# Altium footprint library RKEF300.PcbLib: 1 footprints
Each footprint in its own frame and in the unit in brackets; x right, y up, seen from the top. Pads: shape width x height; smd on the part's side, far side on the other; paste and mask are expansions set on the pad; w line width, h text height; cw(c..) or ccw(c..) is an arc to the next point about the centre after c.
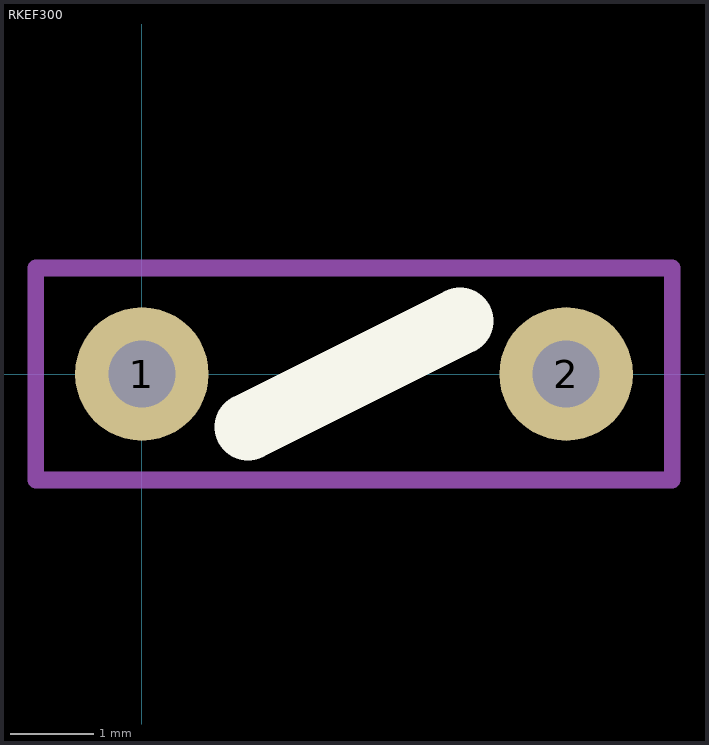
[diagram p0: the footprint, top view; thin cyan lines are the x and y axes]

## RKEF300 [mm]
pads (2):
  round 1.6 hole 0.8: 1(0,0) 2(5.08,0)
Top Overlay:
  lines w0.8: 1.27,-0.635 3.81,0.635
Mechanical 15:
  lines w0.2: -1.27,-1.27 -1.27,1.27 6.35,1.27 6.35,-1.27 -1.27,-1.27